# Altium schematic symbol library YIS100.SchLib: 1 symbol
Pins are listed as number, name and electrical type; pins without a type are passive.

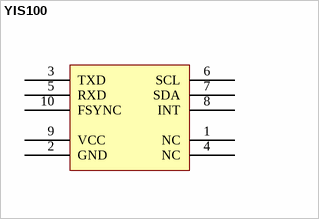
[diagram p0: symbol YIS100]

## YIS100
designator *
footprint YIS100
pins: 1 NC, 2 GND, 3 TXD, 4 NC, 5 RXD, 6 SCL, 7 SDA, 8 INT, 9 VCC, 10 FSYNC